# Altium schematic symbol library Filters.SchLib: 41 symbols
Pins are listed as number, name and electrical type; pins without a type are passive.

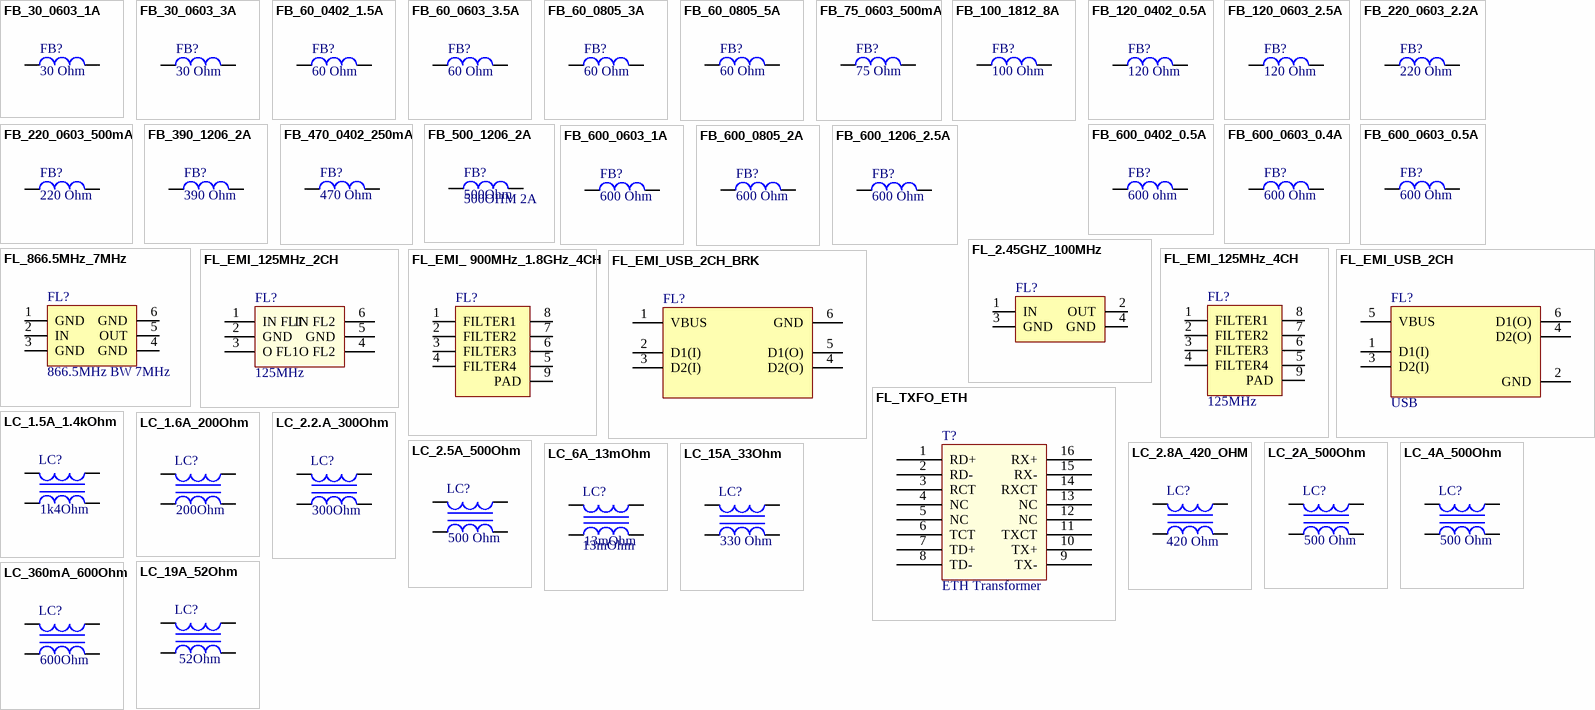
[diagram p0: symbols FB_30_0603_1A to LC_360mA_600Ohm]

## FB_30_0603_1A
designator FB?, comment value 30 Ohm  (hidden comment: 30OHM 1A)
FERRITE BEAD 30 OHM 0603 1LN; Manufacturer: Murata Electronics; Manufacturer Part Number: BLM18PG300SH1D; Reel Stock: N/A; Last modified by: J.Jaramillo; Last modified date: 20240310; ComponentLink1Description: Digi-Key; ComponentLink1URL: https://www.digikey.com/en/products/detail/murata-electronics/BLM18PG300SH1D/2588046?s=N4IgTCBcDaIEIBkCyBGAHABQOIGYAMeAygBIoAiIAugL5A; Supplier 1: Digi-Key; Supplier Part Number 1: 490-12580-1-ND
footprint 0603 (1608 Metric / 20190225 / C-A.Serna.A)
pins: 1, 2

## FB_30_0603_3A
designator FB?, comment value 30 Ohm  (hidden comment: 30OHM 3A)
FERRITE BEAD 30 OHM 0603 1LN; Manufacturer: Würth Elektronik; Manufacturer Part Number: 742792609; Reel Stock: N/A; Last modified by: J.Jaramillo; Last modified date: 20240310; ComponentLink1Description: Digi-Key; ComponentLink1URL: https://www.digikey.com/en/products/detail/w%C3%BCrth-elektronik/742792609/1638995; Supplier 1: Digi-Key; Supplier Part Number 1: 732-1591-1-ND
footprint 0603 (1608 Metric / 20190225 / C-A.Serna.A)
pins: 1, 2

## FB_60_0402_1.5A
designator FB?, comment value 60 Ohm  (hidden comment: 60OHM 1.5A)
FERRITE BEAD 60 OHM 0402 1LN; Manufacturer: TDK Corporation; Manufacturer Part Number: MPZ1005S600CT000; Reel Stock: N/A; Last modified by: J.Jaramillo; Last modified date: 20210118; ComponentLink1Description: Digi-Key; ComponentLink1URL: https://www.digikey.com/en/products/detail/tdk-corporation/MPZ1005S600CT000/1084512; Supplier 1: Digikey; Supplier Part Number 1: 445-2980-1-ND
footprint 0402 (1005 Metric / 20190222 / N-A.Potosi)
pins: 1, 2

## FB_60_0603_3.5A
designator FB?, comment value 60 Ohm  (hidden comment: 60OHM 3.5A)
FERRITE BEAD 60 OHM 0603 1LN; Manufacturer: TDK Corporation; Manufacturer Part Number: MPZ1608S600ATAH0; Reel Stock: N/A; Last modified by: J.Jaramillo; Last modified date: 20240310; ComponentLink1Description: Digi-Key; ComponentLink1URL: https://www.digikey.com/products/en?keywords=445-1563-1-ND; Supplier 1: Digi-Key; Supplier Part Number 1: 445-1563-1-ND
footprint 0603
pins: 1, 2

## FB_60_0805_3A
designator FB?, comment value 60 Ohm  (hidden comment: 60Ohm 3A)
FERRITE BEAD 60 OHM 0805 1LN; Manufacturer: Pulse Electronics Network; Manufacturer Part Number: PE-0805PFB600ST; ComponentLink1URL: https://www.digikey.com/en/products/detail/pulse-electronics-network/PE-0805PFB600ST/5050552; Supplier 1: Digi-key; Supplier Part Number 1: 553-2395-1-ND; Last modified by: J.Jaramillo; Last modified date: 20240310; ComponentLink1Description: Digi-key; Reel Stock: N/A
footprint 0805 (2012 Metric / 20190225 / C-A.Serna.A)
pins: 1, 2

## FB_60_0805_5A
designator FB?, comment value 60 Ohm  (hidden comment: 60Ohm 5A)
FERRITE BEAD 60 OHM 0805 1LN; Manufacturer: Bourns Inc.; Manufacturer Part Number: MH2029-600Y; Reel Stock: N/A; Last modified by: J.Jaramillo; Last modified date: 20240310; ComponentLink1Description: Digi-Key; Supplier 1: Digi-Key; Supplier Part Number 1: MH2029-600YCT-ND
footprint 0805 (2012 Metric / 20190225 / C-A.Serna.A)
pins: 1, 2

## FB_75_0603_500mA
designator FB?, comment value 75 Ohm  (hidden comment: 75OHM 500mA)
FERRITE BEAD 75 OHM 0603 1LN; Manufacturer: Murata Electronics North America; Manufacturer Part Number: BLM18BB750SN1D; Supplier 1: Digi-Key; Supplier Part Number 1: 490-5209-1-ND; Reel Stock: N/A; Last modified by: J.Jaramillo; Last modified date: 20240310; ComponentLink1Description: Digi-Key; ComponentLink1URL: https://www.digikey.com/product-detail/en/murata-electronics-north-america/BLM18BB750SN1D/490-5209-1-ND/1948385
footprint 0603
pins: 1, 2

## FB_100_1812_8A
designator FB?, comment value 100 Ohm  (hidden comment: 100OHM 8A)
FERRITE BEAD 100 OHM 1812 1LN; Manufacturer: Laird-Signal Integrity Products; Manufacturer Part Number: HI1812V101R-10; Reel Stock: N/A; Last modified by: J.Jaramillo; Last modified date: 20240310; ComponentLink1Description: Digi-Key; ComponentLink1URL: https://www.digikey.com/en/products/detail/laird-signal-integrity-products/HI1812V101R-10/1015967; Supplier 1: Digi-key; Supplier Part Number 1: 240-2543-1-ND
footprint 1812 (/20210125/V-A.Patino)
pins: 1, 2

## FB_120_0402_0.5A
designator FB?, comment value 120 Ohm  (hidden comment: 120OHM  0.5A)
FERRITE BEAD 120 OHM 0402 1LN; Manufacturer: Würth Elektronik; Manufacturer Part Number: 74279271; Reel Stock: N/A; Last modified by: J.Jaramillo; Last modified date: 20240310; ComponentLink1Description: Digi-Key; ComponentLink1URL: https://www.digikey.com/en/products/detail/w%C3%BCrth-elektronik/74279271/1638974; Supplier 1: Digi-Key; Supplier Part Number 1: 732-1570-1-ND
footprint 0402 (1005 Metric / 20190222 / N-A.Potosi)
pins: 1, 2

## FB_120_0603_2.5A
designator FB?, comment value 120 Ohm  (hidden comment: 120 Ohm 2.5A)
FERRITE BEAD 120 OHM 0603 1LN; Manufacturer: Laird-Signal Integrity Products; Manufacturer Part Number: MI0603M121R-10; Reel Stock: N/A; Last modified by: J.Jaramillo; Last modified date: 20240310; ComponentLink1Description: Digi-Key; ComponentLink1URL: https://www.digikey.com/product-detail/en/laird-signal-integrity-products/MI0603M121R-10/240-2375-1-ND/806735; Supplier 1: Digi-Key; Supplier Part Number 1: 240-2375-1-ND
footprint 0603 (1608 Metric / 20190225 / C-A.Serna.A)
pins: 1, 2

## FB_220_0603_2.2A
designator FB?, comment value 220 Ohm  (hidden comment: 220OHM 2.2A)
FERRITE BEAD 220 OHM 0603 1LN; Manufacturer: TDK Corporation; Manufacturer Part Number: MPZ1608S221ATA00; Reel Stock: N/A; Last modified by: J.Jaramillo; Last modified date: 20240310; ComponentLink1Description: Digi-Key; ComponentLink1URL: https://www.digikey.com/en/products/detail/tdk-corporation/MPZ1608S221ATA00/571872; Supplier 1: Digi-Key; Supplier Part Number 1: 445-1565-1-ND
footprint 0603 (1608 Metric / 20190225 / C-A.Serna.A)
pins: 1, 2

## FB_220_0603_500mA
designator FB?, comment value 220 Ohm  (hidden comment: 220Ohm 0603)
FERRITE BEAD 220 OHM 0603 1LN; Manufacturer: Pulse Electronics Network; Manufacturer Part Number: PE-0603FB221ST; ComponentLink1URL: https://www.digikey.com/products/en?keywords=553-2383-1-ND; Supplier 1: Digi-key; Supplier Part Number 1: 553-2383-1-ND; Reel Stock: N/A; Last modified by: J.Jaramillo; Last modified date: 20240310; ComponentLink1Description: Digi-key
footprint 0603
pins: 1, 2

## FB_390_1206_2A
designator FB?, comment value 390 Ohm  (hidden comment: 390OHM  2A)
FERRITE BEAD 390 OHM 1206 1LN0 OHM 0402 1LN; Manufacturer: Murata Electronics; Manufacturer Part Number: BLM31PG391SN1L; Reel Stock: N/A; Last modified by: J.Jaramillo; Last modified date: 20240310; ComponentLink1Description: Digi-Key; ComponentLink1URL: https://www.digikey.com/en/products/detail/murata-electronics/BLM31PG391SN1L/1948334?s=N4IgTCBcDaIEIBkCyBmAjABQOIoJxoGUA5NEAXQF8g; Supplier 1: Digi-Key; Supplier Part Number 1: 490-5229-1-ND
footprint 1206
pins: 1, 2

## FB_470_0402_250mA
designator FB?, comment value 470 Ohm  (hidden comment: 470 Ohm 250mA)
FERRITE BEAD 470 OHM 0402 1LN; Manufacturer: Taiyo Yuden; Manufacturer Part Number: BK1005HM471-TV; Supplier 1: Digi-Key; Supplier Part Number 1: 587-3865-1-ND; Reel Stock: N/A; Last modified by: J.Jaramillo; Last modified date: 20240310; ComponentLink1Description: Digi-Key; ComponentLink1URL: https://www.digikey.com/en/products/detail/taiyo-yuden/BK1005HM471-TV/4875463
footprint 0402 (1005 Metric / 20190222 / N-A.Potosi)
pins: 1, 2

## FB_500_1206_2A
designator FB?, comment 500OHM 2A  value 500Ohm
FERRITE BEAD 500 OHM 1206 1LN; Manufacturer: Taiyo Yuden; Manufacturer Part Number: FBMH3216HM501NT; Supplier 1: Digi-key; Supplier Part Number 1: 587-1752-1-ND; Reel Stock: N/A; Last modified by: J.Jaramillo; Last modified date: 20240310; ComponentLink1Description: Digi-key; ComponentLink1URL: https://www.digikey.com/en/products/detail/taiyo-yuden/FBMH3216HM501NT/957836
footprint 1206
pins: 1, 2

## FB_600_0402_0.5A
designator FB?, comment value 600 ohm  (hidden comment: 600Ohm 500mA)
FERRITE BEAD 600 OHM 0402 1LN; Manufacturer: Murata Electronics; Manufacturer Part Number: BLM15AX601SZ1D; Reel Stock: N/A; Last modified by: J.Jaramillo; Last modified date: 20230712; ComponentLink1Description: Digi-Key; ComponentLink1URL: https://www.digikey.com/en/products/detail/murata-electronics/BLM15AX601SZ1D/7595445; Supplier 1: Digi-Key; Supplier Part Number 1: 490-16584-1-ND
footprint 0402 (1005 Metric / 20190222 / N-A.Potosi)
pins: 1, 2

## FB_600_0603_0.4A
designator FB?, comment value 600 Ohm  (hidden comment: 600 OHM 0.4A)
EMI BEAD FILETER; Manufacturer: Chilisin Electronics; Manufacturer Part Number: BBGK00160808601Y00; Supplier 1: Digi-Key; Supplier Part Number 1: 2184-BBGK00160808601Y00CT-ND; Reel Stock: N/A; Last modified by: J.Jaramillo; Last modified date: 20240310; ComponentLink1Description: Digi-Key; ComponentLink1URL: https://www.digikey.com/product-detail/en/chilisin-electronics/BBGK00160808601Y00/2184-BBGK00160808601Y00CT-ND/10509065
footprint 0603 (1608 Metric / 20190225 / C-A.Serna.A)
pins: 1, 2

## FB_600_0603_0.5A
designator FB?, comment value 600 Ohm  (hidden comment: 600Ohm 500mA)
FERRITE BEAD 600 OHM 0603 1LN; Manufacturer: Pulse Electronics Network; Manufacturer Part Number: PE-0603FB601ST; ComponentLink1URL: https://www.digikey.com/products/en?keywords=553-2384-1-ND; Supplier 1: Digi-Key; Supplier Part Number 1: 553-2384-1-ND; Reel Stock: N/A; Last modified by: J.Jaramillo; Last modified date: 20240310; ComponentLink1Description: Digi-key
footprint 0603
pins: 1, 2

## FB_600_0603_1A
designator FB?, comment value 600 Ohm  (hidden comment: 600 Ohm 1A)
FERRITE BEAD 600 OHM 0603 1 LN; Manufacturer: Yageo; Manufacturer Part Number: PBY160808T-601Y-N; Supplier 1: Digi-Key; Supplier Part Number 1: 13-PBY160808T-601Y-NCT-ND; Reel Stock: N/A; Last modified by: J.Jaramillo; Last modified date: 20240310; ComponentLink1Description: Digi-Key; ComponentLink1URL: https://www.digikey.com/product-detail/en/yageo/PBY160808T-601Y-N/13-PBY160808T-601Y-NCT-ND/12756414
footprint 0603 (1608 Metric / 20190225 / C-A.Serna.A)
pins: 1, 2

## FB_600_0805_2A
designator FB?, comment value 600 Ohm  (hidden comment: 600Ohm 2A)
FERRITE BEAD 600 OHM 0805 1LN; Manufacturer: Würth Elektronik; Manufacturer Part Number: 742792040; ComponentLink1URL: https://www.digikey.com/products/en?keywords=732-1620-1-ND; Supplier 1: Digi-key; Supplier Part Number 1: 732-1620-1-ND; Reel Stock: N/A; Last modified by: J.Jaramillo; Last modified date: 20240310; ComponentLink1Description: Digi-key
footprint 0805 (2012 Metric / 20190225 / C-A.Serna.A)
pins: 1, 2

## FB_600_1206_2.5A
designator FB?, comment value 600 Ohm  (hidden comment: 600Ohm 2.5A)
FERRITE BEAD 600 OHM 1206 1LN; Manufacturer: Würth Elektronik; Manufacturer Part Number: 742792118; ComponentLink1URL: https://www.digikey.com/products/en?keywords=732-4653-1-ND; Supplier 1: Digi-key; Supplier Part Number 1: 732-4653-1-ND; Reel Stock: N/A; Last modified by: J.Jaramillo; Last modified date: 20240310; ComponentLink1Description: Digi-key
footprint 1206
pins: 1, 2

## FL_2.45GHZ_100MHz
designator FL?, comment 2.45GHz BW 100MHz  (value not drawn)
RF FILTER BAND PASS 2.45GHZ 0805; Manufacturer: TDK Corporation; Manufacturer Part Number: DEA202450BT-1213C1; Supplier 1: Digi-key; Supplier Part Number 1: 445-3969-1-ND; Reel Stock: N/A; Last modified by: J.Jaramillo; Last modified date: 20240310; ComponentLink1Description: Digi-Key; ComponentLink1URL: https://www.digikey.tw/product-detail/en/tdk-corporation/DEA202450BT-1213C1/445-3969-1-ND/1955566?cur=USD&lang=en
footprint 4_PC_PAD (4_PC_PAD/20200727/M-C.Calderon)
pins: 1 IN, 2 OUT, 3 GND, 4 GND

## FL_866.5MHz_7MHz
designator FL?, comment 866.5MHz BW 7MHz
FILTER SAW 866.5MHZ 6SMD; Manufacturer: Qualcomm (RF360 - A Qualcomm & TDK Joint Venture); Manufacturer Part Number: B39871B3717U410; Supplier 1: Digi-key; Supplier Part Number 1: 495-3734-1-ND; Last modified by: J.Jaramillo; Last modified date: 20240310; ComponentLink1Description: Digi-key; ComponentLink1URL: https://www.digikey.com/product-detail/en/qualcomm-rf360-a-qualcomm-tdk-joint-venture/B39871B3717U410/495-3734-1-ND/1812309; Reel Stock: N/A
footprint SMD_6_3x3mm_NS (SMD-6, No lead / 20190225 / C-A.Serna.A)
pins: 1 GND, 2 IN, 3 GND, 4 GND, 5 OUT, 6 GND

## FL_EMI_125MHz_2CH
designator FL?, comment 125MHz
FILTER RC(PI) 100 OHM/16PF SMD; Manufacturer: ON Semiconductor; Manufacturer Part Number: NUF2230XV6T1G; Reel Stock: N/A; Supplier 1: Digi-key; Supplier Part Number 1: NUF2230XV6T1GOSCT-ND; Last modified by: J.Jaramillo; Last modified date: 20240310; ComponentLink1Description: Digi-key; ComponentLink1URL: https://www.digikey.com/product-detail/en/on-semiconductor/NUF2230XV6T1G/NUF2230XV6T1GOSCT-ND/2122051
footprint SOT_ 563-6 (SOT - 563 , SOT -666 / 20191209 / N-A.Potosi)
pins: 1 IN FL1, 2 GND, 3 O FL1, 4 O FL2, 5 GND, 6 IN FL2

## FL_EMI_125MHz_4CH
designator FL?, comment 125MHz
FILTER RC(PI) 200 OHM/15PF SMD; Manufacturer: ON Semiconductor; Manufacturer Part Number: NUF4401MNT1G; Reel Stock: N/A; Supplier 1: Digi-key; Supplier Part Number 1: NUF4401MNT1GOSCT-ND; Last modified by: J.Jaramillo; Last modified date: 20240310; ComponentLink1Description: Digi-key; ComponentLink1URL: https://www.digikey.com/en/products/detail/onsemi/NUF4401MNT1G/1484986?s=N4IgTCBcDaIHIFUBiAWFAGAjAWTgFUwHEQBdAXyA
footprint VFDFN_8_2x2mm (DFN, 8-Leads, Body 2.00x2.00mm, Pitch 0.50mm, Thermal Pad 1.40x0.75mm, IPC Medium Density)
pins: 1 FILTER1, 2 FILTER2, 3 FILTER3, 4 FILTER4, 5 F4, 6 F3, 7 F2, 8 F1, 9 PAD

## FL_EMI_ 900MHz_1.8GHz_4CH
designator FL?, comment 900Mhz - 1.8GHz  (value not drawn)
FILTER RC(PI) 100 OHM/45PF SMD; Manufacturer: STMicroelectronics; Manufacturer Part Number: EMIF04-1005M8; Reel Stock: N/A; Last modified by: J.Jaramillo; Last modified date: 20240310; ComponentLink1Description: Digi-Key; ComponentLink1URL: https://www.digikey.com/en/products/detail/stmicroelectronics/EMIF04-1005M8/3874257; Supplier 1: Digi-Key; Supplier Part Number 1: 497-13522-1-ND
footprint 8-UFDFN_1.7x1.50MM_EP (/20220825/J-A.Sepulveda)
pins: 1 FILTER1, 2 FILTER2, 3 FILTER3, 4 FILTER4, 5 F4, 6 F3, 7 F2, 8 F1, 9 PAD

## FL_EMI_USB_2CH
designator FL?, comment USB
FILTER RC(PI) 22 OHM/42PF SMD; Manufacturer: ON Semiconductor; Manufacturer Part Number: NUF2042XV6T1G; Reel Stock: N/A; Supplier 1: Digi-key; Supplier Part Number 1: NUF2042XV6T1GOSCT-ND; Last modified by: J.Jaramillo; Last modified date: 20240310; ComponentLink1Description: Digi-key; ComponentLink1URL: https://www.digikey.com/en/products/detail/on-semiconductor/NUF2042XV6T1G/1484972
footprint SOT_ 563-6 (SOT - 563 , SOT -666 / 20191209 / N-A.Potosi)
pins: 1 D1(I), 2 GND (power), 3 D2(I), 4 D2(O), 5 VBUS (power), 6 D1(O)

## FL_EMI_USB_2CH_BRK
designator FL?, comment USB  (value not drawn)
FILTER RC(PI) 22 OHM/68PF SMD; Manufacturer: ON Semiconductor; Manufacturer Part Number: STF202-22T1G; Reel Stock: N/A; Last modified by: J.Jaramillo; Last modified date: 20240310; ComponentLink1Description: Digi-Key; ComponentLink1URL: https://www.digikey.com/en/products/detail/on-semiconductor/STF202-22T1G/720906?s=N4IgTCBcDaIMoBUBiYAMYC0YwIIwHEQBdAXyA; Supplier 1: Digi-Key; Supplier Part Number 1: STF202-22T1GOSCT-ND
footprint SOT_457_6 (/20210521/M-C.Calderon)
pins: 1 VBUS (power), 2 D1(I), 3 D2(I), 4 D2(O), 5 D1(O), 6 GND (power)

## FL_TXFO_ETH
designator T?, comment ETH Transformer
TRANSFORMER LAN 10/100/1000 SMD; Manufacturer: HANRUN; Manufacturer Part Number: HR681685; Reel Stock: N/A; Supplier 1: Poshton; Supplier Part Number 1: HR681685; Last modified by: J.Jaramillo; Last modified date: 20240310
footprint TRANSFORMER-16 (/20200715/N-A.Potosi)
pins: 1 RD+, 2 RD-, 3 RCT, 4 NC, 5 NC, 6 TCT, 7 TD+, 8 TD-, 9 TX-, 10 TX+, 11 TXCT, 12 NC, 13 NC, 14 RXCT, 15 RX-, 16 RX+

## LC_1.5A_1.4kOhm
designator LC?, comment value 1k4Ohm  (hidden comment: 1.4kOhm)
CMC 1.5A 2LN 1.4KOHM SMD; Manufacturer: Murata Electronics; Manufacturer Part Number: DLW5BTH142TQ2L; Reel Stock: N/A; Last modified by: J.Jaramillo; Last modified date: 20240310; ComponentLink1Description: Digi-Key; ComponentLink1URL: https://www.digikey.com/en/products/detail/murata-electronics/DLW5BTH142TQ2L/7564115; Supplier 1: Digi-Key; Supplier Part Number 1: 490-16550-1-ND
footprint LC_4SMD_5X5MM (20200820 / M-C.Calderon)
pins: 1, 2, 3, 4

## LC_1.6A_200Ohm
designator LC?, comment value 200Ohm  (hidden comment: 200Ohm 1.6A)
CMC 10UH 1.6A 2LN 200 OHM SMD; Manufacturer: Bourns Inc.; Manufacturer Part Number: SRF0905-100Y; Reel Stock: N/A; Last modified by: J.Jaramillo; Last modified date: 20240310; ComponentLink1Description: Digi-Key; ComponentLink1URL: https://www.digikey.com/en/products/detail/bourns-inc/SRF0905-100Y/2075949; Supplier 1: Digi-Key; Supplier Part Number 1: SRF0905-100YCT-ND
footprint LC_4SMD_9.2X6MM_NS (20220221 / E.Naranjo)
pins: 1, 2, 3, 4

## LC_2.2.A_300Ohm
designator LC?, comment value 300Ohm  (hidden comment: 300Ohm 2.2A)
CMC 2.2A 2LN 300OHM SMD AEC-Q200; Manufacturer: Murata Electronics; Manufacturer Part Number: PLT5BPH3013R7SNL; Reel Stock: N/A; Last modified by: J.Jaramillo; Last modified date: 20240310; ComponentLink1Description: Digi-Key; ComponentLink1URL: https://www.digikey.com/en/products/detail/murata-electronics/PLT5BPH3013R7SNL/5321070; Supplier 1: Digi-Key; Supplier Part Number 1: 490-10978-1-ND
footprint LC_4SMD_5X5MM_NS (20220221 / E.Naranjo)
pins: 1, 2, 3, 4

## LC_2.5A_500Ohm
designator LC?, comment value 500 Ohm  (hidden comment: 500Ohm 2.5A)
CMC 2.5A 2LN 500 OHM SMD; Manufacturer: Murata Electronics; Manufacturer Part Number: DLW5ATN501MQ2L; Last modified by: J.Jaramillo; Last modified date: 20240310; ComponentLink1Description: Digi-key; ComponentLink1URL: https://www.digikey.com/products/en?keywords=490-16487-1-ND; Reel Stock: N/A; Supplier 1: Digi-Key; Supplier Part Number 1: 490-16487-1-ND
footprint LC_4SMD_5X3.6_NS
pins: 1, 2, 3, 4

## LC_2.8A_420_OHM
designator LC?, comment value 420 Ohm  (hidden comment: 420 Ohm 2.8A)
CMC 2.8A 2LN 420 OHM SMD; Manufacturer: TDK Corporation; Manufacturer Part Number: ACM4520-421-2P-T000; Supplier 1: Digi-key; Supplier Part Number 1: 445-8644-1-ND; Reel Stock: N/A; Last modified by: J.Jaramillo; Last modified date: 20240310; ComponentLink1Description: Digi-key; ComponentLink1URL: https://www.digikey.com/product-detail/en/tdk-corporation/ACM4520-421-2P-T000/445-8644-1-ND/3077911
footprint LC_4SMD_2x4.7x4.5mm_NS (/20190927/V-A.Patino)
footprint LC_4SMD_4.7x4.5mm_NS (/20201104/J-E.Pachon)
pins: 1, 2, 3, 4

## LC_2A_500Ohm
designator LC?, comment value 500 Ohm  (hidden comment: 500Ohm 2A)
CMC 2A 2LN 500 OHM SMD; Manufacturer: TDK Corporation; Manufacturer Part Number: ACP3225-501-2P-T000; Last modified by: J.Jaramillo; Last modified date: 20240310; ComponentLink1Description: Digi-key; ComponentLink1URL: https://www.digikey.com/products/en?keywords=445-172408-1-ND; Reel Stock: N/A; Supplier 1: Digi-Key; Supplier Part Number 1: 445-172408-1-ND
footprint LC_4SMD_3.2x2.5mm_NS (/ 20190225 / C-A.Serna.A)
pins: 1, 2, 3, 4

## LC_4A_500Ohm
designator LC?, comment value 500 Ohm  (hidden comment: 500Ohm 2A)
CMC 4A 2LN 500 OHM SMD; Manufacturer: Murata Electronics; Manufacturer Part Number: DLW5BTM501SQ2L; Supplier 1: Digi-Key; Supplier Part Number 1: 490-11112-2-ND; Reel Stock: N/A; Last modified by: J.Jaramillo; Last modified date: 20240310; ComponentLink1Description: Digi-Key; ComponentLink1URL: https://www.digikey.com/product-detail/en/murata-electronics/DLW5BTM501SQ2L/490-11112-2-ND/4421380
footprint LC_4SMD_5X5mm (20200820 / M-C.Calderon)
pins: 1, 2, 3, 4

## LC_6A_13mOhm
designator LC?, comment 13mOhm
CMC 1MH 6A 2LN TH; Manufacturer: Würth Elektronik; Manufacturer Part Number: 744823601; Supplier 1: Digi-key; Supplier Part Number 1: 732-1444-ND; Reel Stock: N/A; Last modified by: J.Jaramillo; Last modified date: 20240310; ComponentLink1Description: Digi-key; ComponentLink1URL: https://www.digikey.com/en/products/detail/w%C3%BCrth-elektronik/744823601/1638849?s=N4IgTCBcDaIOwGYwFoCMAWTyByAREAugL5A; Value: 13mOhm
footprint LC_4TH_25X17MM (/20220520/F-A.Ospina)
pins: 1, 2, 3, 4

## LC_15A_33Ohm
designator LC?, comment value 330 Ohm  (hidden comment: 33Ohm 15A)
CMC 15A 2LN 33 OHM SMD; Manufacturer: Laird-Signal Integrity Products; Manufacturer Part Number: CM2021Y330R-10; Last modified by: J.Jaramillo; Last modified date: 20240310; ComponentLink1Description: Digi-key; ComponentLink1URL: https://www.digikey.com/product-detail/en/laird-signal-integrity-products/CM2021Y330R-10/240-2502-1-ND/935988; Reel Stock: N/A; Supplier 1: Digi-Key; Supplier Part Number 1: 240-2502-1-ND
footprint LC_4SMD_5.88x5.6mm_NS (20190328 / V-A.Patino)
pins: 1, 2, 3, 4

## LC_19A_52Ohm
designator LC?, comment value 52Ohm  (hidden comment: 52OHM 19A)
CMC 19A 2LN 52 OHM SMD; Manufacturer: Würth Elektronik; Manufacturer Part Number: 7427521; Reel Stock: N/A; Last modified by: J.Jaramillo; Last modified date: 20240310; ComponentLink1Description: Digi-Key; ComponentLink1URL: https://www.digikey.com/en/products/detail/w%C3%BCrth-elektronik/7427521/2201796?s=N4IgTCBcDaIOwBYxwKxgIwgLoF8g; Supplier 1: Digi-Key; Supplier Part Number 1: 732-2358-1-ND
footprint 0302 (/20220804/J-E.Pachon)
pins: 1, 2, 3, 4

## LC_360mA_600Ohm
designator LC?, comment value 600Ohm  (hidden comment: 600Ohm 360mA)
CMC 360MA 2LN 600OHM SMD AECQ200; Manufacturer: Pulse Electronics Network; Manufacturer Part Number: PE-1812ACC110STS; Reel Stock: N/A; Last modified by: J.Jaramillo; Last modified date: 20240310; ComponentLink1Description: Digi-Key; ComponentLink1URL: https://www.digikey.com/en/products/detail/pulse-electronics-network/PE-1812ACC110STS/5149114; Supplier 1: Digi-Key; Supplier Part Number 1: 553-2563-1-ND
footprint LC_4SMD_4.5X3.2MM_NS (20220221 / E.Naranjo)
pins: 1, 2, 3, 4

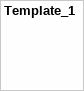
[diagram p1: symbol Template_1]

## Template_1
designator ?
Reel Stock: N/A; ComponentLink1Description: Digi-Key